# EAGLE library part STM32F429B-XIO (library sjg-stm32)
STM32f429 configured as Peripheral IO controller on the expansion bus side of the LxLink bridge
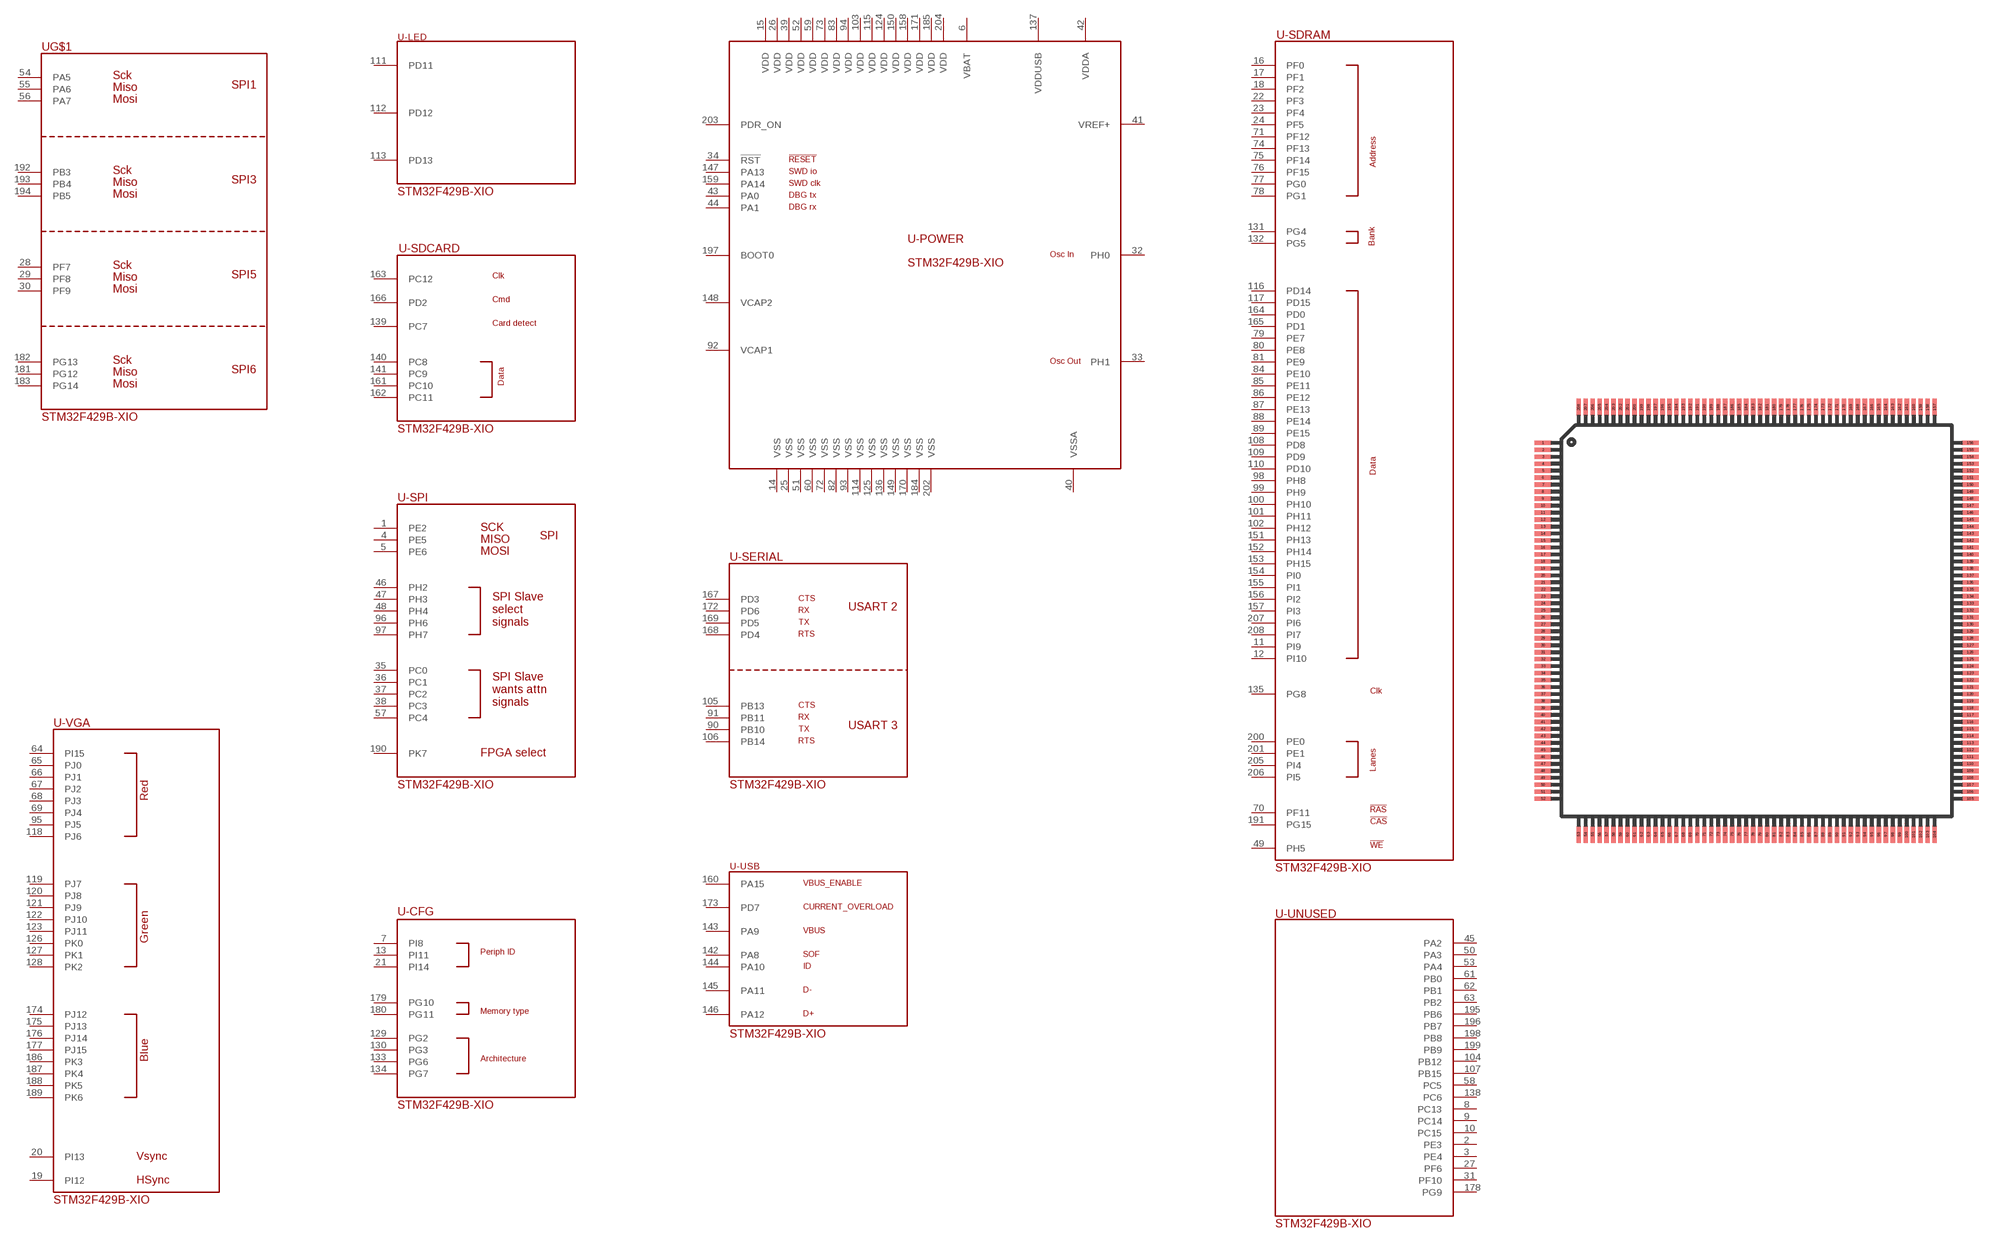
[diagram p7: symbol with the pads of PQFP208; footprint PQFP208]

Designator prefix -; gates -CFG=STM32F429B-XIO-CFG -VGA=STM32F429B-XIO-LCD -LED=STM32F429B-XIO-LED -POWER=STM32F429B-XIO-PWR -SDCARD=STM32F429B-XIO-SDCARD -SPI=STM32F429B-XIO-SPI -UNUSED=STM32F429B-XIO-UNUSED -SERIAL=STM32F429B-XIO-USART -USB=STM32F429B-XIO-USB -SDRAM=STM32F429B-XIO-SDRAM G$1=STM32F429B-XIO-XSPI

## STM32F429B-XIO  [PQFP208]
1  -SPI:PE2
2  -UNUSED:PE3
3  -UNUSED:PE4
4  -SPI:PE5
5  -SPI:PE6
6  -POWER:VBAT
7  -CFG:PI8
8  -UNUSED:PC13
9  -UNUSED:PC14
10  -UNUSED:PC15
11  -SDRAM:PI9
12  -SDRAM:PI10
13  -CFG:PI11
14  -POWER:VSS
15  -POWER:VDD
16  -SDRAM:PF0
17  -SDRAM:PF1
18  -SDRAM:PF2
19  -VGA:PI12
20  -VGA:PI13
21  -CFG:PI14
22  -SDRAM:PF3
23  -SDRAM:PF4
24  -SDRAM:PF5
25  -POWER:VSS
26  -POWER:VDD
27  -UNUSED:PF6
28  G$1:PF7
29  G$1:PF8
30  G$1:PF9
31  -UNUSED:PF10
32  -POWER:PH0
33  -POWER:PH1
34  -POWER:!RST!
35  -SPI:PC0
36  -SPI:PC1
37  -SPI:PC2
38  -SPI:PC3
39  -POWER:VDD
40  -POWER:VSSA
41  -POWER:VREF+
42  -POWER:VDDA
43  -POWER:PA0
44  -POWER:PA1
45  -UNUSED:PA2
46  -SPI:PH2
47  -SPI:PH3
48  -SPI:PH4
49  -SDRAM:PH5
50  -UNUSED:PA3
51  -POWER:VSS
52  -POWER:VDD
53  -UNUSED:PA4
54  G$1:PA5
55  G$1:PA6
56  G$1:PA7
57  -SPI:PC4
58  -UNUSED:PC5
59  -POWER:VDD
60  -POWER:VSS
61  -UNUSED:PB0
62  -UNUSED:PB1
63  -UNUSED:PB2
64  -VGA:PI15
65  -VGA:PJ0
66  -VGA:PJ1
67  -VGA:PJ2
68  -VGA:PJ3
69  -VGA:PJ4
70  -SDRAM:PF11
71  -SDRAM:PF12
72  -POWER:VSS
73  -POWER:VDD
74  -SDRAM:PF13
75  -SDRAM:PF14
76  -SDRAM:PF15
77  -SDRAM:PG0
78  -SDRAM:PG1
79  -SDRAM:PE7
80  -SDRAM:PE8
81  -SDRAM:PE9
82  -POWER:VSS
83  -POWER:VDD
84  -SDRAM:PE10
85  -SDRAM:PE11
86  -SDRAM:PE12
87  -SDRAM:PE13
88  -SDRAM:PE14
89  -SDRAM:PE15
90  -SERIAL:PB10
91  -SERIAL:PB11
92  -POWER:VCAP1
93  -POWER:VSS
94  -POWER:VDD
95  -VGA:PJ5
96  -SPI:PH6
97  -SPI:PH7
98  -SDRAM:PH8
99  -SDRAM:PH9
100  -SDRAM:PH10
101  -SDRAM:PH11
102  -SDRAM:PH12
103  -POWER:VDD
104  -UNUSED:PB12
105  -SERIAL:PB13
106  -SERIAL:PB14
107  -UNUSED:PB15
108  -SDRAM:PD8
109  -SDRAM:PD9
110  -SDRAM:PD10
111  -LED:PD11
112  -LED:PD12
113  -LED:PD13
114  -POWER:VSS
115  -POWER:VDD
116  -SDRAM:PD14
117  -SDRAM:PD15
118  -VGA:PJ6
119  -VGA:PJ7
120  -VGA:PJ8
121  -VGA:PJ9
122  -VGA:PJ10
123  -VGA:PJ11
124  -POWER:VDD
125  -POWER:VSS
126  -VGA:PK0
127  -VGA:PK1
128  -VGA:PK2
129  -CFG:PG2
130  -CFG:PG3
131  -SDRAM:PG4
132  -SDRAM:PG5
133  -CFG:PG6
134  -CFG:PG7
135  -SDRAM:PG8
136  -POWER:VSS
137  -POWER:VDDUSB
138  -UNUSED:PC6
139  -SDCARD:PC7
140  -SDCARD:PC8
141  -SDCARD:PC9
142  -USB:PA8
143  -USB:PA9
144  -USB:PA10
145  -USB:PA11
146  -USB:PA12
147  -POWER:PA13
148  -POWER:VCAP2
149  -POWER:VSS
150  -POWER:VDD
151  -SDRAM:PH13
152  -SDRAM:PH14
153  -SDRAM:PH15
154  -SDRAM:PI0
155  -SDRAM:PI1
156  -SDRAM:PI2
157  -SDRAM:PI3
158  -POWER:VDD
159  -POWER:PA14
160  -USB:PA15
161  -SDCARD:PC10
162  -SDCARD:PC11
163  -SDCARD:PC12
164  -SDRAM:PD0
165  -SDRAM:PD1
166  -SDCARD:PD2
167  -SERIAL:PD3
168  -SERIAL:PD4
169  -SERIAL:PD5
170  -POWER:VSS
171  -POWER:VDD
172  -SERIAL:PD6
173  -USB:PD7
174  -VGA:PJ12
175  -VGA:PJ13
176  -VGA:PJ14
177  -VGA:PJ15
178  -UNUSED:PG9
179  -CFG:PG10
180  -CFG:PG11
181  G$1:PG12
182  G$1:PG13
183  G$1:PG14
184  -POWER:VSS
185  -POWER:VDD
186  -VGA:PK3
187  -VGA:PK4
188  -VGA:PK5
189  -VGA:PK6
190  -SPI:PK7
191  -SDRAM:PG15
192  G$1:PB3
193  G$1:PB4
194  G$1:PB5
195  -UNUSED:PB6
196  -UNUSED:PB7
197  -POWER:BOOT0
198  -UNUSED:PB8
199  -UNUSED:PB9
200  -SDRAM:PE0
201  -SDRAM:PE1
202  -POWER:VSS
203  -POWER:PDR_ON
204  -POWER:VDD
205  -SDRAM:PI4
206  -SDRAM:PI5
207  -SDRAM:PI6
208  -SDRAM:PI7

## Footprint PQFP208 (pad centres in mm)
PLASTIC QUAD FLAT PACK
smd 1.2 x 0.32: 1 -15.3,12.75; 2 -15.3,12.25; 3 -15.3,11.75; 4 -15.3,11.25; 5 -15.3,10.75; 6 -15.3,10.25; 7 -15.3,9.75; 8 -15.3,9.25; 9 -15.3,8.75; 10 -15.3,8.25; 11 -15.3,7.75; 12 -15.3,7.25; 13 -15.3,6.75; 14 -15.3,6.25; 15 -15.3,5.75; 16 -15.3,5.25; 17 -15.3,4.75; 18 -15.3,4.25; 19 -15.3,3.75; 20 -15.3,3.25; 21 -15.3,2.75; 22 -15.3,2.25; 23 -15.3,1.75; 24 -15.3,1.25; 25 -15.3,0.75; 26 -15.3,0.25; 27 -15.3,-0.25; 28 -15.3,-0.75; 29 -15.3,-1.25; 30 -15.3,-1.75; 31 -15.3,-2.25; 32 -15.3,-2.75; 33 -15.3,-3.25; 34 -15.3,-3.75; 35 -15.3,-4.25; 36 -15.3,-4.75; 37 -15.3,-5.25; 38 -15.3,-5.75; 39 -15.3,-6.25; 40 -15.3,-6.75; 41 -15.3,-7.25; 42 -15.3,-7.75; 43 -15.3,-8.25; 44 -15.3,-8.75; 45 -15.3,-9.25; 46 -15.3,-9.75; 47 -15.3,-10.25; 48 -15.3,-10.75; 49 -15.3,-11.25; 50 -15.3,-11.75; 51 -15.3,-12.25; 52 -15.3,-12.75; 105 15.3,-12.75; 106 15.3,-12.25; 107 15.3,-11.75; 108 15.3,-11.25; 109 15.3,-10.75; 110 15.3,-10.25; 111 15.3,-9.75; 112 15.3,-9.25; 113 15.3,-8.75; 114 15.3,-8.25; 115 15.3,-7.75; 116 15.3,-7.25; 117 15.3,-6.75; 118 15.3,-6.25; 119 15.3,-5.75; 120 15.3,-5.25; 121 15.3,-4.75; 122 15.3,-4.25; 123 15.3,-3.75; 124 15.3,-3.25; 125 15.3,-2.75; 126 15.3,-2.25; 127 15.3,-1.75; 128 15.3,-1.25; 129 15.3,-0.75; 130 15.3,-0.25; 131 15.3,0.25; 132 15.3,0.75; 133 15.3,1.25; 134 15.3,1.75; 135 15.3,2.25; 136 15.3,2.75; 137 15.3,3.25; 138 15.3,3.75; 139 15.3,4.25; 140 15.3,4.75; 141 15.3,5.25; 142 15.3,5.75; 143 15.3,6.25; 144 15.3,6.75; 145 15.3,7.25; 146 15.3,7.75; 147 15.3,8.25; 148 15.3,8.75; 149 15.3,9.25; 150 15.3,9.75; 151 15.3,10.25; 152 15.3,10.75; 153 15.3,11.25; 154 15.3,11.75; 155 15.3,12.25; 156 15.3,12.75
smd 0.32 x 1.2: 53 -12.75,-15.3; 54 -12.25,-15.3; 55 -11.75,-15.3; 56 -11.25,-15.3; 57 -10.75,-15.3; 58 -10.25,-15.3; 59 -9.75,-15.3; 60 -9.25,-15.3; 61 -8.75,-15.3; 62 -8.25,-15.3; 63 -7.75,-15.3; 64 -7.25,-15.3; 65 -6.75,-15.3; 66 -6.25,-15.3; 67 -5.75,-15.3; 68 -5.25,-15.3; 69 -4.75,-15.3; 70 -4.25,-15.3; 71 -3.75,-15.3; 72 -3.25,-15.3; 73 -2.75,-15.3; 74 -2.25,-15.3; 75 -1.75,-15.3; 76 -1.25,-15.3; 77 -0.75,-15.3; 78 -0.25,-15.3; 79 0.25,-15.3; 80 0.75,-15.3; 81 1.25,-15.3; 82 1.75,-15.3; 83 2.25,-15.3; 84 2.75,-15.3; 85 3.25,-15.3; 86 3.75,-15.3; 87 4.25,-15.3; 88 4.75,-15.3; 89 5.25,-15.3; 90 5.75,-15.3; 91 6.25,-15.3; 92 6.75,-15.3; 93 7.25,-15.3; 94 7.75,-15.3; 95 8.25,-15.3; 96 8.75,-15.3; 97 9.25,-15.3; 98 9.75,-15.3; 99 10.25,-15.3; 100 10.75,-15.3; 101 11.25,-15.3; 102 11.75,-15.3; 103 12.25,-15.3; 104 12.75,-15.3; 157 12.75,15.3; 158 12.25,15.3; 159 11.75,15.3; 160 11.25,15.3; 161 10.75,15.3; 162 10.25,15.3; 163 9.75,15.3; 164 9.25,15.3; 165 8.75,15.3; 166 8.25,15.3; 167 7.75,15.3; 168 7.25,15.3; 169 6.75,15.3; 170 6.25,15.3; 171 5.75,15.3; 172 5.25,15.3; 173 4.75,15.3; 174 4.25,15.3; 175 3.75,15.3; 176 3.25,15.3; 177 2.75,15.3; 178 2.25,15.3; 179 1.75,15.3; 180 1.25,15.3; 181 0.75,15.3; 182 0.25,15.3; 183 -0.25,15.3; 184 -0.75,15.3; 185 -1.25,15.3; 186 -1.75,15.3; 187 -2.25,15.3; 188 -2.75,15.3; 189 -3.25,15.3; 190 -3.75,15.3; 191 -4.25,15.3; 192 -4.75,15.3; 193 -5.25,15.3; 194 -5.75,15.3; 195 -6.25,15.3; 196 -6.75,15.3; 197 -7.25,15.3; 198 -7.75,15.3; 199 -8.25,15.3; 200 -8.75,15.3; 201 -9.25,15.3; 202 -9.75,15.3; 203 -10.25,15.3; 204 -10.75,15.3; 205 -11.25,15.3; 206 -11.75,15.3; 207 -12.25,15.3; 208 -12.75,15.3